# EAGLE library part FDG6316P_D (library transistor-fet)
P-Channel MOSFET 1.8V Specified PowerTrench
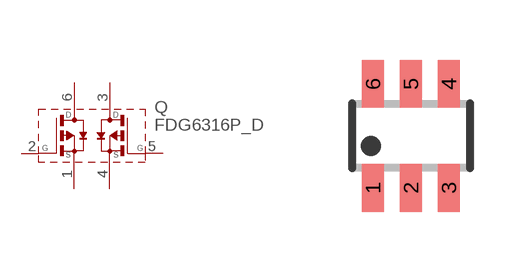
[diagram p16: symbol with the pads of SSOT-6; footprint SSOT-6]

Designator prefix Q

## FDG6316P_D  [SSOT-6]
1  S1  pas
2  G1  pas
3  D2  pas
4  S2  pas
5  G2  pas
6  D1  pas

## Footprint SSOT-6 (pad centres in mm)
Small Outline Transistor
smd 0.55 x 1.2: 1 -0.95,-1.3; 2 0,-1.3; 3 0.95,-1.3; 4 0.95,1.3; 5 0,1.3; 6 -0.95,1.3